# Altium schematic symbol library TEST_POINT.SchLib: 1 symbol
Pins are listed as number, name and electrical type; pins without a type are passive.

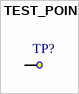
[diagram p0: symbol TEST_POIN]

## TEST_POIN
designator TP?, comment Test point  (value not drawn)
Value: Test point
footprint TEST_POINT (Reference point)
pins: TP? Test point